# EAGLE library part ARDUINO-NANO-V3 (library rc_car)
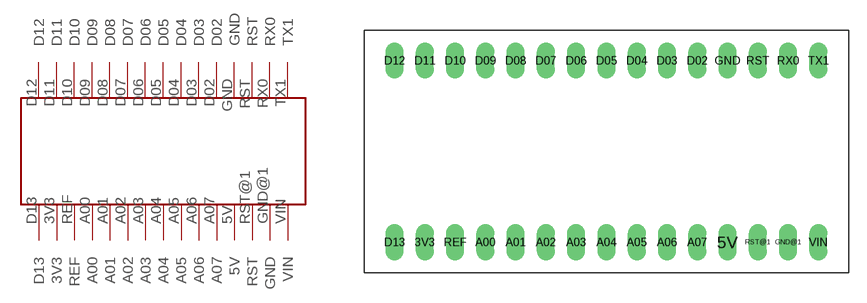
[diagram p1: symbol with the pads of ARDUINO-NANO-V3; footprint ARDUINO-NANO-V3]

Designator prefix -

## ARDUINO-NANO-V3  [ARDUINO-NANO-V3]
3V3  3V3
5V  5V
A00  A00
A01  A01
A02  A02
A03  A03
A04  A04
A05  A05
A06  A06
A07  A07
D02  D02
D03  D03
D04  D04
D05  D05
D06  D06
D07  D07
D08  D08
D09  D09
D10  D10
D11  D11
D12  D12
D13  D13
GND  GND
GND@1  GND
REF  REF
RST  RST
RST@1  RST
RX0  RX0
TX1  TX1
VIN  VIN

## Footprint ARDUINO-NANO-V3 (pad centres in mm)
drill 1.016 long: 3V3 -15.24,-15.24; 5V 10.16,-15.24; A00 -10.16,-15.24; A01 -7.62,-15.24; A02 -5.08,-15.24; A03 -2.54,-15.24; A04 0,-15.24; A05 2.54,-15.24; A06 5.08,-15.24; A07 7.62,-15.24; D02 7.62,0; D03 5.08,0; D04 2.54,0; D05 0,0; D06 -2.54,0; D07 -5.08,0; D08 -7.62,0; D09 -10.16,0; D10 -12.7,0; D11 -15.24,0; D12 -17.78,0; D13 -17.78,-15.24; GND 10.16,0; GND@1 15.24,-15.24; REF -12.7,-15.24; RST 12.7,0; RST@1 12.7,-15.24; RX0 15.24,0; TX1 17.78,0; VIN 17.78,-15.24